# EAGLE library part RELAY-DPDT-POL (library Others)
Polarized Relay - DPDT Created by: Wai Weng
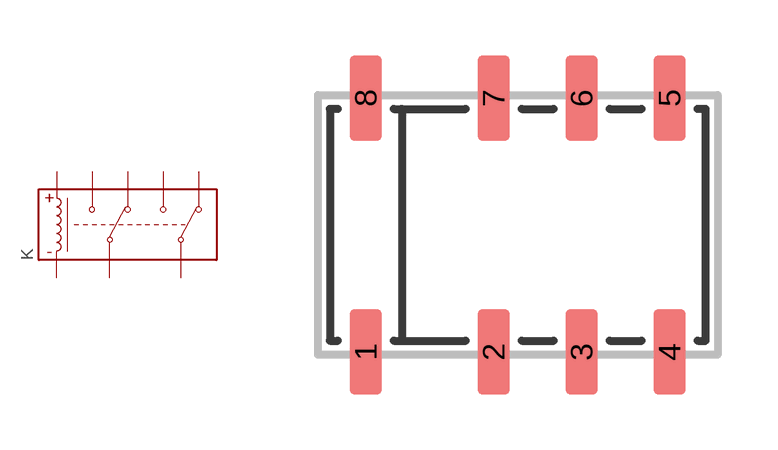
[diagram p8: symbol with the pads of RELAY-DPDT-HFD4-S; footprint RELAY-DPDT-HFD4-S]

Designator prefix K

## RELAY-DPDT-POL_HFD4/24-S_(HFD4-S) (DESC: S HFD4 DPDT Relay HFD4/24-S 24V 2A; MPN: HFD4/24-S; VALUE: 24V 2A), RELAY-DPDT-POL_HFD4/5-S_(HFD4-S) (DESC: S HFD4 DPDT Relay HFD4/5-S 5V 2A; MPN: HFD4/5-S; VALUE: 5V 2A)  [RELAY-DPDT-HFD4-S]
1  COIL+
2  NC1
3  COM1
4  NO1
5  NO2
6  COM2
7  NC2
8  COIL-

## Footprint RELAY-DPDT-HFD4-S (pad centres in mm)
SMD DPDT Relay - HFD4-S Size: 10mm x 6.5mm Created by: Wai Weng
smd 0.8 x 2.15: 1 -3.8,-3.175; 2 -0.6,-3.175; 3 1.6,-3.175; 4 3.8,-3.175; 5 3.8,3.175; 6 1.6,3.175; 7 -0.6,3.175; 8 -3.8,3.175